# EAGLE library part DIL06 (library ic-packages)
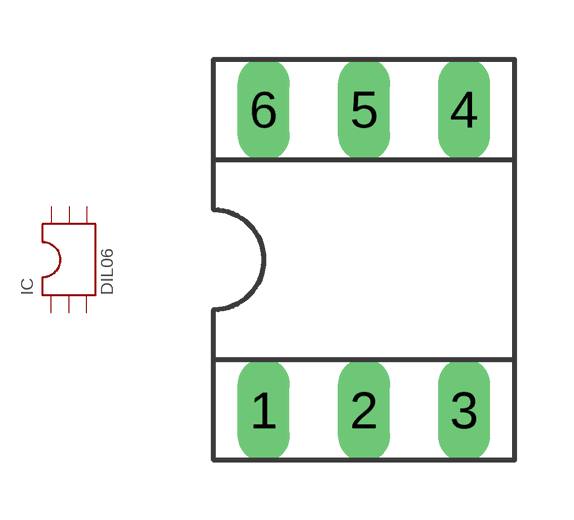
[diagram p0: symbol with the pads of DIL06; footprint DIL06]

Designator prefix IC

## DIL06  [DIL06]
1  P$1
2  P$2
3  P$3
4  P$4
5  P$5
6  P$6

## Footprint DIL06 (pad centres in mm)
drill 0.813 long: 1 -2.54,-3.81; 2 0,-3.81; 3 2.54,-3.81; 4 2.54,3.81; 5 0,3.81; 6 -2.54,3.81